# EAGLE library part NET-MODULE (library personal)
ENC28J60 module interface
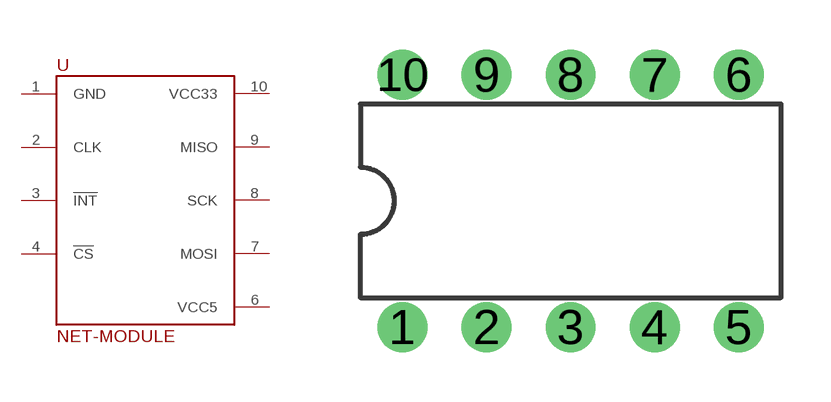
[diagram p8: symbol with the pads of DIL10; footprint DIL10]

Designator prefix -

## NET-MODULE  [DIL10]
1  GND
2  CLK
3  !INT!
4  !CS!
6  VCC5
7  MOSI
8  SCK
9  MISO
10  VCC33

## Footprint DIL10 (pad centres in mm)
Dual In Line Package
drill 1 round: 1 -5.08,-3.81; 2 -2.54,-3.81; 3 0,-3.81; 4 2.54,-3.81; 5 5.08,-3.81; 6 5.08,3.81; 7 2.54,3.81; 8 0,3.81; 9 -2.54,3.81; 10 -5.08,3.81